# Altium footprint library PcbLib1.PcbLib: 224 footprints (part 1 of 14)
Each footprint in its own frame and in the unit in brackets; x right, y up, seen from the top. Pads: shape width x height; smd on the part's side, far side on the other; paste and mask are expansions set on the pad; w line width, h text height; cw(c..) or ccw(c..) is an arc to the next point about the centre after c.
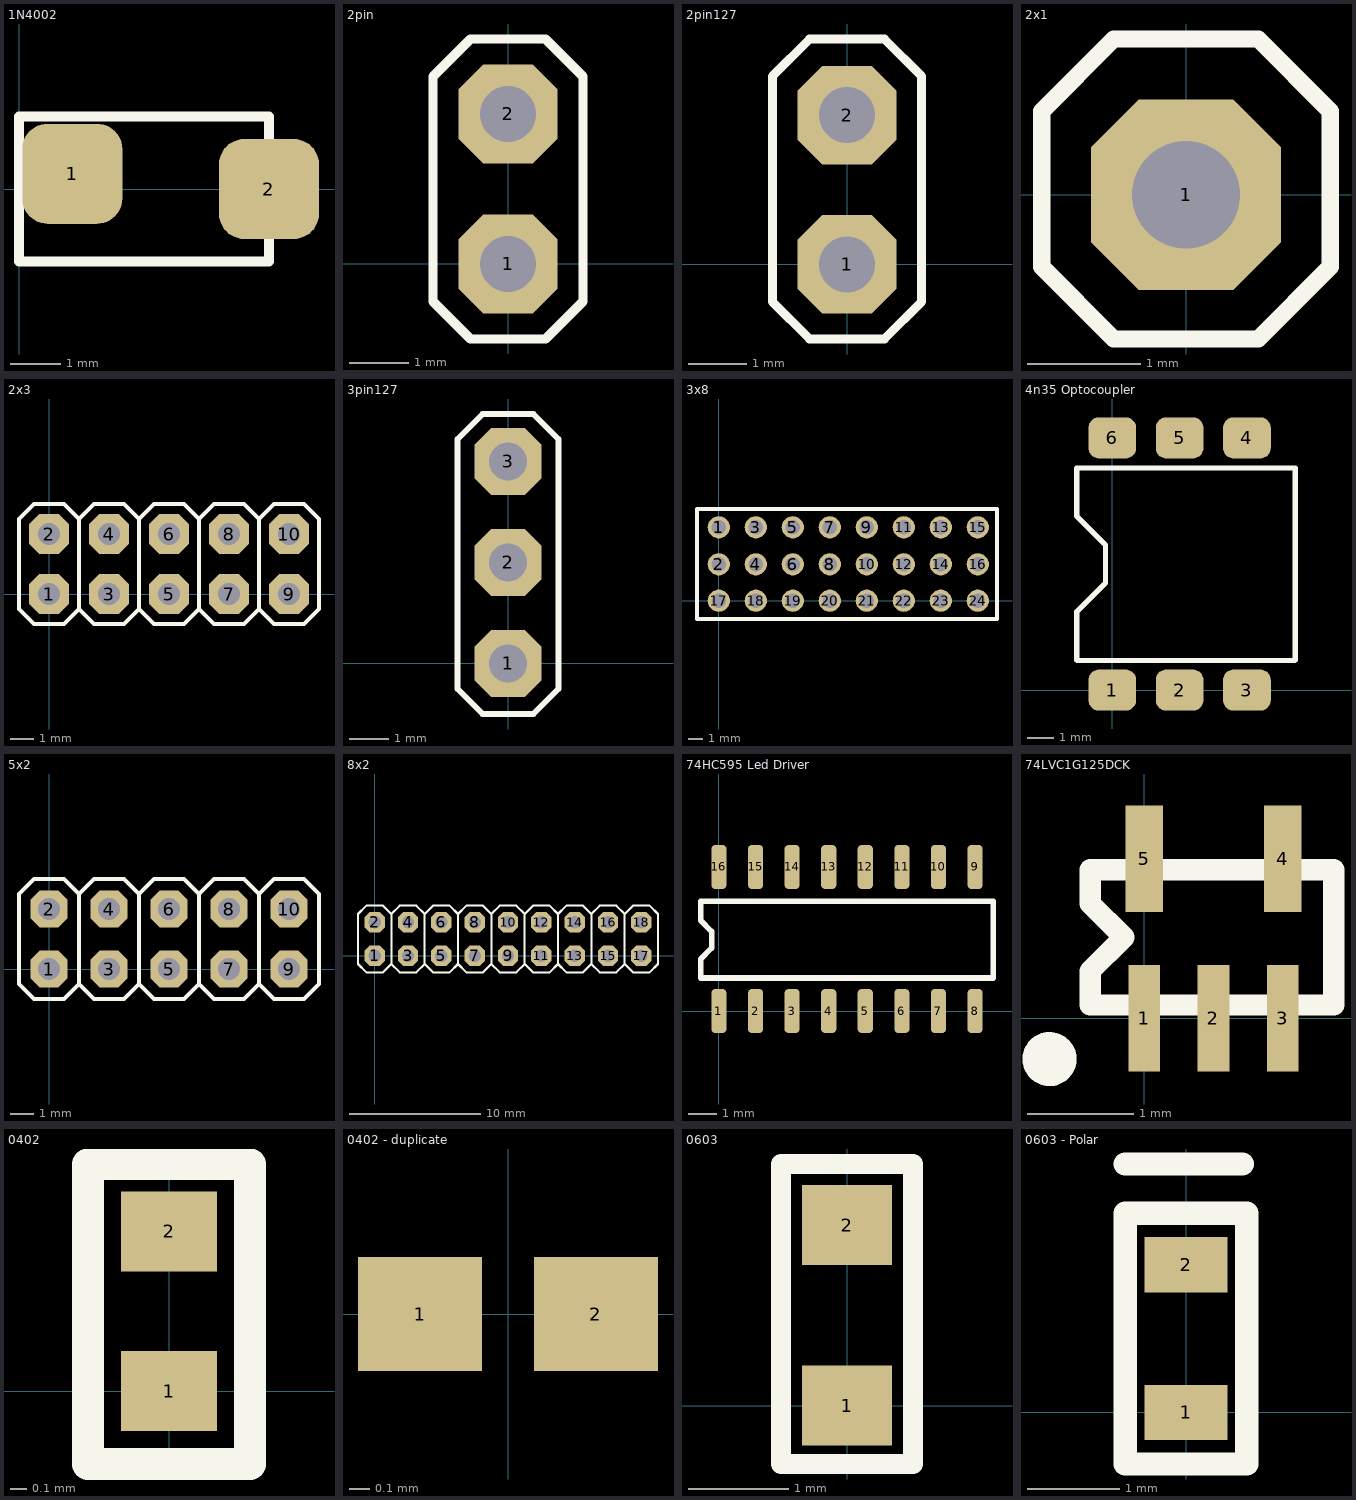
[diagram p0: the footprints below, top view; thin cyan lines are the x and y axes]

## 1N4002 [mm]
height 2
pads (2):
  rrect50% 2x2 smd: 1(1.067,0.305) 2(5,0)
Top Overlay:
  lines w0.2: 0,-1.45 0,1.45 5,1.45 5,-1.45 0,-1.45

## 2pin [mil]
height 78.74
pads (2):
  oct 66x66 hole 37.4: 1(0,0) 2(0,100)
Top Overlay:
  rectangle: -10,-10 10,10
  rectangle: -10,90 10,110
  lines w6: -50,-25 -25,-50 25,-50 50,-25 50,125 25,150 -25,150 -50,125 -50,-25

## 2pin127 [mil]
height 78.74
pads (2):
  oct 66x66 hole 37.4: 1(0,0) 2(0,100)
Top Overlay:
  rectangle: -10,-10 10,10
  rectangle: -10,90 10,110
  lines w6: -50,-25 -25,-50 25,-50 50,-25 50,126 25,151 -25,151 -50,126 -50,-25

## 2x1 [mil]
height 78.74
pads (1):
  oct 66x66 hole 37.4: 1(0,0)
Top Overlay:
  rectangle: -10,-10 10,10
  lines w6: -50,-25 -50,29 -25,54 25,54 50,29 50,-25 25,-50 -25,-50 -50,-25

## 2x3 [mil]
pads (10):
  oct 66x66 hole 37.4: 1(0,0) 2(0,100) 3(100,0) 4(100,100) 5(200,0) 6(200,100) 7(300,0) 8(300,100) 9(400,0) 10(400,100)
Top Overlay:
  rectangle: 190,-10 210,10
  rectangle: 190,90 210,110
  rectangle: -10,-10 10,10
  rectangle: -10,90 10,110
  rectangle: 90,90 110,110
  rectangle: 90,-10 110,10
  rectangle: 290,90 310,110
  rectangle: 290,-10 310,10
  rectangle: 390,90 410,110
  rectangle: 390,-10 410,10
  lines w6: 50,-25 25,-50 -25,-50 -50,-25 -50,125 -25,150 25,150 50,125 ; 50,-25 75,-50 125,-50 150,-25 ; 50,-25 50,125 ; 50,125 75,150 125,150 150,125 ; 150,-25 175,-50 225,-50 250,-25 ; 150,-25 150,125 ; 150,-25 150,125 ; 150,125 175,150 225,150 250,125 ; 250,-25 250,125 ; 250,-25 275,-50 325,-50 350,-25 ; 250,125 275,150 325,150 350,125 ; 350,-25 350,125 ; 350,-25 375,-50 425,-50 450,-25 450,125 425,150 375,150 350,125

## 3pin127 [mil]
pads (3):
  oct 66x66 hole 37.4: 1(0,0) 2(0,100) 3(0,200)
Top Overlay:
  lines w6: -50,-25 -50,222 -25,247 25,247 50,222 50,-25 25,-50 -25,-50 -50,-25

## 3x8 [mil]
pads (24):
  round 60 hole 39.37: 1(0,198.43) 2(0,98.43) 3(100,198.43) 4(100,98.43) 5(200,198.43) 6(200,98.43) 7(300,198.43) 8(300,98.43) 9(400,198.43) 10(400,98.43) 11(500,198.43) 12(500,98.43) 13(600,198.43) 14(600,98.43) 15(700,198.43) 16(700,98.43) 17(0,0) 18(100,0) 19(200,0) 20(300,0) 21(400,0) 22(500,0) 23(600,0) 24(700,0)
Top Overlay:
  lines w10: -59.06,-49.21 751.97,-49.21 751.97,247.64 -59.06,247.64 -59.06,-49.21

## 4n35 Optocoupler [mm]
height 3
pads (6):
  rrect50% 1.8x1.55 smd: 1(0,0) 2(2.54,0) 3(5.08,0) 4(5.08,9.52) 5(2.54,9.52) 6(0,9.52)
Top Overlay:
  lines w0.2: -1.333,8.382 6.909,8.382 6.909,3.023 6.909,1.143 6.883,1.118 -1.321,1.118 -1.346,1.143 -1.346,2.953 -0.254,4.045 -0.254,5.48 -1.346,6.572 -1.346,8.382 -1.321,8.382

## 5x2 [mm]
pads (10):
  oct 1.55x1.55 hole 0.95: 1(0,0) 2(0,2.54) 3(2.54,0) 4(2.54,2.54) 5(5.08,0) 6(5.08,2.54) 7(7.62,0) 8(7.62,2.54) 9(10.16,0) 10(10.16,2.54)
Top Overlay:
  rectangle: -0.254,-0.254 0.254,0.254
  rectangle: -0.254,2.286 0.254,2.794
  rectangle: 2.286,2.286 2.794,2.794
  rectangle: 2.286,-0.254 2.794,0.254
  rectangle: 4.826,2.286 5.334,2.794
  rectangle: 4.826,-0.254 5.334,0.254
  rectangle: 9.906,-0.254 10.414,0.254
  rectangle: 9.906,2.286 10.414,2.794
  rectangle: 7.366,-0.254 7.874,0.254
  rectangle: 7.366,2.286 7.874,2.794
  lines w0.152: 1.27,-0.635 0.635,-1.27 -0.635,-1.27 -1.27,-0.635 -1.27,3.175 -0.635,3.81 0.635,3.81 1.27,3.175 ; 1.27,-0.635 1.905,-1.27 3.175,-1.27 3.81,-0.635 ; 1.27,-0.635 1.27,3.175 ; 1.27,3.175 1.905,3.81 3.175,3.81 3.81,3.175 ; 3.81,-0.635 3.81,3.175 ; 3.81,-0.635 4.445,-1.27 5.715,-1.27 6.35,-0.635 ; 3.81,3.175 4.445,3.81 5.715,3.81 6.35,3.175 ; 6.35,-0.635 6.35,3.175 ; 6.35,-0.635 6.35,3.175 ; 6.35,-0.635 6.985,-1.27 8.255,-1.27 8.89,-0.635 ; 6.35,3.175 6.985,3.81 8.255,3.81 8.89,3.175 ; 8.89,-0.635 9.525,-1.27 10.795,-1.27 11.43,-0.635 ; 8.89,-0.635 8.89,3.175 ; 8.89,3.175 9.525,3.81 10.795,3.81 11.43,3.175 ; 11.43,-0.635 11.43,3.175 ; 11.43,-0.635 11.43,3.175

## 8x2 [mm]
pads (18):
  oct 1.55x1.55 hole 0.95: 1(0,0) 2(0,2.54) 3(2.54,0) 4(2.54,2.54) 5(5.08,0) 6(5.08,2.54) 7(7.62,0) 8(7.62,2.54) 9(10.16,0) 10(10.16,2.54) 11(12.7,0) 12(12.7,2.54) 13(15.24,0) 14(15.24,2.54) 15(17.78,0) 16(17.78,2.54) 17(20.32,0) 18(20.32,2.54)
Top Overlay:
  rectangle: 17.526,-0.254 18.034,0.254
  rectangle: 17.526,2.286 18.034,2.794
  rectangle: 12.446,2.286 12.954,2.794
  rectangle: 12.446,-0.254 12.954,0.254
  rectangle: 14.986,2.286 15.494,2.794
  rectangle: 14.986,-0.254 15.494,0.254
  rectangle: 7.366,2.286 7.874,2.794
  rectangle: 7.366,-0.254 7.874,0.254
  rectangle: 9.906,2.286 10.414,2.794
  rectangle: 9.906,-0.254 10.414,0.254
  rectangle: 4.826,-0.254 5.334,0.254
  rectangle: 4.826,2.286 5.334,2.794
  rectangle: 2.286,-0.254 2.794,0.254
  rectangle: 2.286,2.286 2.794,2.794
  rectangle: -0.254,2.286 0.254,2.794
  rectangle: -0.254,-0.254 0.254,0.254
  rectangle: 20.066,2.286 20.574,2.794
  rectangle: 20.066,-0.254 20.574,0.254
  lines w0.152: 1.27,-0.635 1.27,3.175 ; 1.27,-0.635 1.905,-1.27 3.175,-1.27 3.81,-0.635 ; 1.27,-0.635 0.635,-1.27 -0.635,-1.27 -1.27,-0.635 -1.27,3.175 -0.635,3.81 0.635,3.81 1.27,3.175 ; 1.27,3.175 1.905,3.81 3.175,3.81 3.81,3.175 ; 3.81,-0.635 4.445,-1.27 5.715,-1.27 6.35,-0.635 ; 3.81,-0.635 3.81,3.175 ; 3.81,3.175 4.445,3.81 5.715,3.81 6.35,3.175 ; 6.35,-0.635 6.985,-1.27 8.255,-1.27 8.89,-0.635 ; 6.35,-0.635 6.35,3.175 ; 6.35,-0.635 6.35,3.175 ; 6.35,3.175 6.985,3.81 8.255,3.81 8.89,3.175 ; 8.89,-0.635 8.89,3.175 ; 8.89,-0.635 9.525,-1.27 10.795,-1.27 11.43,-0.635 ; 8.89,3.175 9.525,3.81 10.795,3.81 11.43,3.175 ; 11.43,-0.635 12.065,-1.27 13.335,-1.27 13.97,-0.635 ; 11.43,-0.635 11.43,3.175 ; 11.43,-0.635 11.43,3.175 ; 11.43,3.175 12.065,3.81 13.335,3.81 13.97,3.175 ; 13.97,-0.635 13.97,3.175 ; 13.97,-0.635 14.605,-1.27 15.875,-1.27 16.51,-0.635 ; 13.97,3.175 14.605,3.81 15.875,3.81 16.51,3.175 ; 16.51,-0.635 17.145,-1.27 18.415,-1.27 19.05,-0.635 ; 16.51,-0.635 16.51,3.175 ; 16.51,-0.635 16.51,3.175 ; 16.51,3.175 17.145,3.81 18.415,3.81 19.05,3.175 ; 19.05,-0.635 19.05,3.175 ; 19.05,-0.635 19.05,3.175 ; 19.05,-0.635 19.05,3.175 ; 19.05,-0.635 19.685,-1.27 20.955,-1.27 21.59,-0.635 21.59,3.175 20.955,3.81 19.685,3.81 19.05,3.175

## 74HC595 Led Driver [mil]
pads (16):
  rrect50% 20.63x60 smd: 1(0,0) 2(50,0) 3(100,0) 4(150,0) 5(200,0) 6(250,0) 7(300,0) 8(350,0) 9(350,196.85) 10(300,196.85) 11(250,196.85) 12(200,196.85) 13(150,196.85) 14(100,196.85) 15(50,196.85) 16(0,196.85)
Top Overlay:
  lines w7.87: -25,45 375,45 375,150 -25,150 -25,123.75 -10,108.75 -10,86.25 -25,71.25 -25,45

## 74LVC1G125DCK [mm]
pads (5):
  rect 0.3x1 smd mask+0: 1(0,0) 2(0.65,0) 3(1.3,0)
  rect 0.35x1 smd mask+0: 4(1.3,1.5) 5(0,1.5)
Top Overlay:
  circle w0.254: c-0.889,-0.381 r0.127
  lines w0.2: -0.508,0.127 -0.508,0.445 -0.191,0.762 -0.508,1.079 -0.508,1.397 1.778,1.397 1.778,0.127 -0.508,0.127

## 0402 [mm]
pads (2):
  rect 0.6x0.5 smd: 1(0,0) 2(0,1)
Top Overlay:
  lines w0.2: -0.508,-0.457 -0.508,1.422 0.508,1.422 0.508,-0.457 -0.508,-0.457

## 0402 - duplicate [mm]
pads (2):
  rect 0.6x0.55 smd: 1(-0.425,0) 2(0.425,0)
3D body "CAP-0402.step": height 0.57, standoff 0, extent -0.5,-0.26 0.5,0.26

## 0603 [mm]
height 1
pads (2):
  rect 0.9x0.8 smd mask+0.102: 1(0,0) 2(0,1.803)
Top Overlay:
  lines w0.2: -0.66,-0.584 -0.66,2.413 0.66,2.413 0.66,-0.584 -0.66,-0.584

## 0603 - Polar [mm]
height 1
pads (2):
  rect 0.9x0.6 smd: 1(0,0) 2(0,1.6)
Top Overlay:
  lines w0.254: -0.66,2.692 0.61,2.692 ; -0.66,-0.559 -0.66,2.159 0.66,2.159 0.66,-0.559 -0.66,-0.559